# Altium schematic symbol library BHKSPRE.SchLib: 28 symbols
Pins are listed as number, name and electrical type; pins without a type are passive.

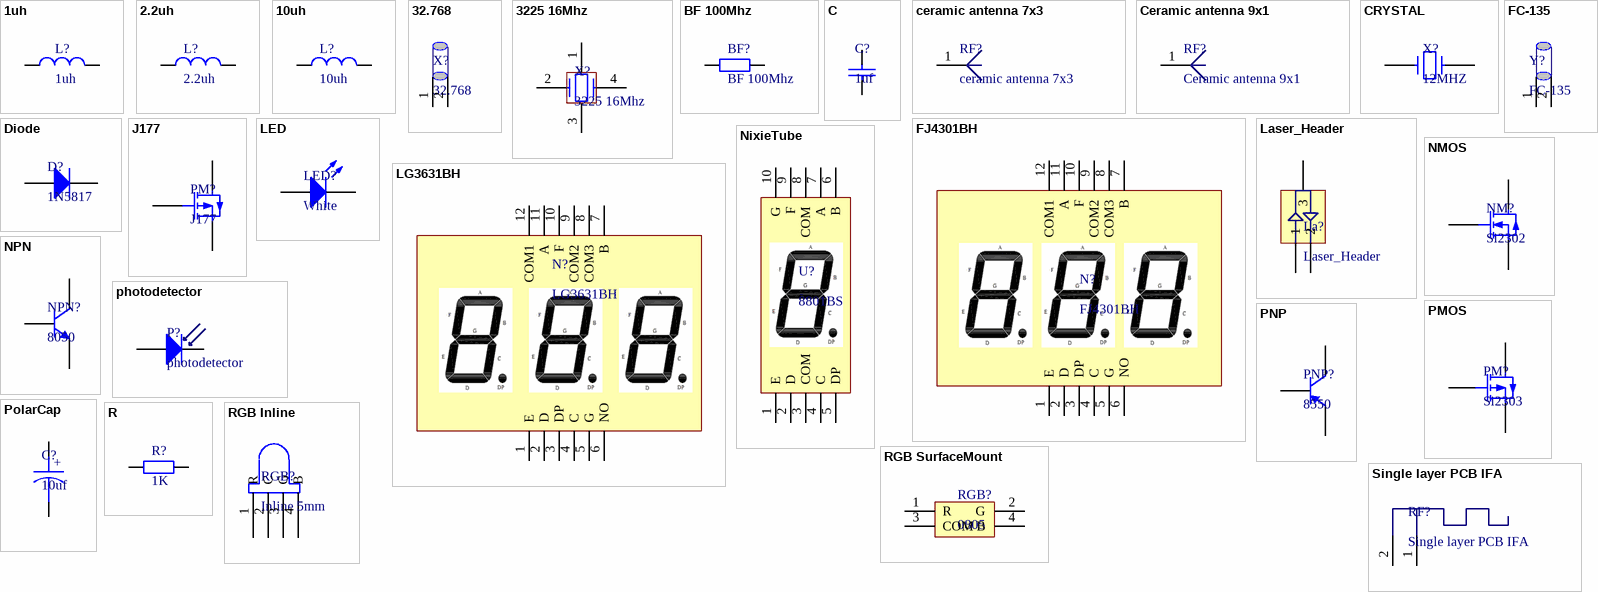
[diagram p0: symbols 1uh to Single layer PCB IFA]

## 1uh
designator L?
Attributes: 1A; Purchase: http://item.taobao.com/item.htm?spm=a1z09.2.9.118.lpZDXY&id=40718839610&_u=3mljuuh496c; Prices: 0.0176
footprint L0603 (Chip Inductor; Body 1.6 x 0.8 mm (LxW typ))
pins: 1, 2

## 2.2uh
designator L?
Purchase: C1033; Attributes: *; Prices: 0.03
footprint L0603
pins: 1, 2

## 10uh
designator L?
Purchase: C9389; Attributes: *; Price: 0.44
footprint GNDR10Uh
pins: 1, 2

## 32.768
designator X?
Purchase: C2236; Attributes: *; Prices: 0.184
footprint TC-26
pins: 1, 2

## 3225 16Mhz
designator X?
Attributes: Passive; Purchase: C13738; Prices: 0.54
footprint 3225
pins: 1 GND, 2 XTAL_M, 3 GND, 4 XTALP

## BF 100Mhz
designator BF?
Purchase: C1007; Attributes: *; Prices: 0.01
footprint R0603
pins: 1, 2

## C
designator C?, comment 1uf
Attributes: 10V 20%  Non polar capacitor
footprint C0603
footprint C0805
pins: 1, 2

## ceramic antenna 7x3
designator RF?
Attributes: *; Purchase: http://item.taobao.com/item.htm?spm=a230r.1.14.25.n7mo0e&id=37712405647&ns=1&_u=hmljuuhdacc&abbucket=10#detail; Prices: 3
footprint ceramic antenna 7x3
pins: 1

## Ceramic antenna 9x1
designator RF?
Ceramic antenna; Attributes: *; Purchase: http://item.taobao.com/item.htm?spm=a230r.1.14.46.DCNBXM&id=43600295564&ns=1&abbucket=10#detail; Prices: 1.1
footprint ceramic antenna 9x1
pins: 1

## CRYSTAL
designator X?, comment 12MHZ
Attributes: CRYSTAL; Purchase: C2204
footprint HC-49
pins: 1, 2

## Diode
designator D?, comment 1N5817
Purchase: C22623; Attributes: *; Prices: 1.11
footprint Diode1206 (Footprint not found)
footprint SOD523(0603)
footprint SOD323(0805)
pins: A, C K

## FC-135
designator Y?
Purchase: C32346; Attributes: *; Prices: 0.77
footprint FC-135
pins: 1, 2

## FJ4301BH
designator N?
Purchase: C10706; Attributes: *; Prices: 1.41
footprint FJ4301BH
pins: 1 E, 2 D, 3 DP, 4 C, 5 G, 6 NO, 7 B, 8 COM3, 9 COM2, 10 F, 11 A, 12 COM1

## J177
designator PM?
Purchase: C13996; Attributes: *; Prices: 0.38
footprint SOT23-3
pins: 1 D, 2 S, 3 G

## Laser_Header
designator La?
Purchase: 温桂仙 234752466; Prices: 4.00; Attributes: *
footprint Laser_Header
pins: 1, 2, 3

## LED
designator LED?, comment White
Purchase: C2290; Attributes: *; Prices: 0.06
footprint LED0603
pins: A, C

## LG3631BH
designator N?
Prices: 1.35; Purchase: http://item.taobao.com/item.htm?spm=a230r.1.14.1.KJjqmE&id=3944807830&ns=1&abbucket=19#detail; Attributes: *
footprint LG3631BH
pins: 1 E, 2 D, 3 DP, 4 C, 5 G, 6 NO, 7 B, 8 COM3, 9 COM2, 10 F, 11 A, 12 COM1

## NixieTube
designator U?, comment 8801BS
Attributes: Common anode 0.8inch; Purchase: http://www.360yuanjian.com/product/details_11236.html
footprint CA 0.8Inch
pins: 1 E, 2 D, 3 COM, 4 C, 5 DP, 6 B, 7 A, 8 COM, 9 F, 10 G

## NMOS
designator NM?, comment Si2302
Purchase: C10488; Attributes: *; Prices: 0.3
footprint SOT23-3
pins: 1 G, 2 S, 3 D

## NPN
designator NPN?, comment 8050
Purchase: C2146; Attributes: *; Prices: 0.05
footprint SOT23-3
pins: 1 B, 2 E, 3 C

## photodetector
designator P?
Purchase: C5149; Attributes: *; Prices: 2.70
footprint BPW34
pins: A, C K

## PMOS
designator PM?, comment Si2303
Purchase: C10489; Attributes: *; Prices: 0.6
footprint SOT23-3
pins: 1 G, 2 S, 3 D

## PNP
designator PNP?, comment 8550
Purchase: C2147; Attributes: *; Prices: 0.04
footprint SOT23-3
pins: 1 B, 2 E, 3 C

## PolarCap
designator C?, comment 10uf
Attributes: 10V
footprint PolarC1206
pins: A, C
text: +

## R
designator R?, comment 1K
Attributes: 5% Stacked resistance
footprint R0603
footprint R0805
pins: 1, 2

## RGB Inline
designator RGB?, comment Inline 5mm
Attributes: *; Purchase: http://item.taobao.com/item.htm?spm=a230r.1.14.28.szMfn4&id=27150504592&ns=1#detail
footprint RGB In Line 5MM
pins: 1 R, 2 C, 3 G, 4 B

## RGB SurfaceMount
designator RGB?, comment 0805
Attributes: *; Purchase: http://item.taobao.com/item.htm?spm=a230r.1.14.37.7wwOPm&id=40645206915&ns=1#detail; Prices: 0.18
footprint RGB 0805
pins: 1 R, 2 G, 3 COM, 4 B

## Single layer PCB IFA
designator RF?
Attributes: *; Purchase: *
footprint PCB IFA
pins: 1, 2